# EAGLE library part NOII4SM6600A (library ICs)
6.6MP CMOS Image Sensor, 1" form factor, 40MHz.
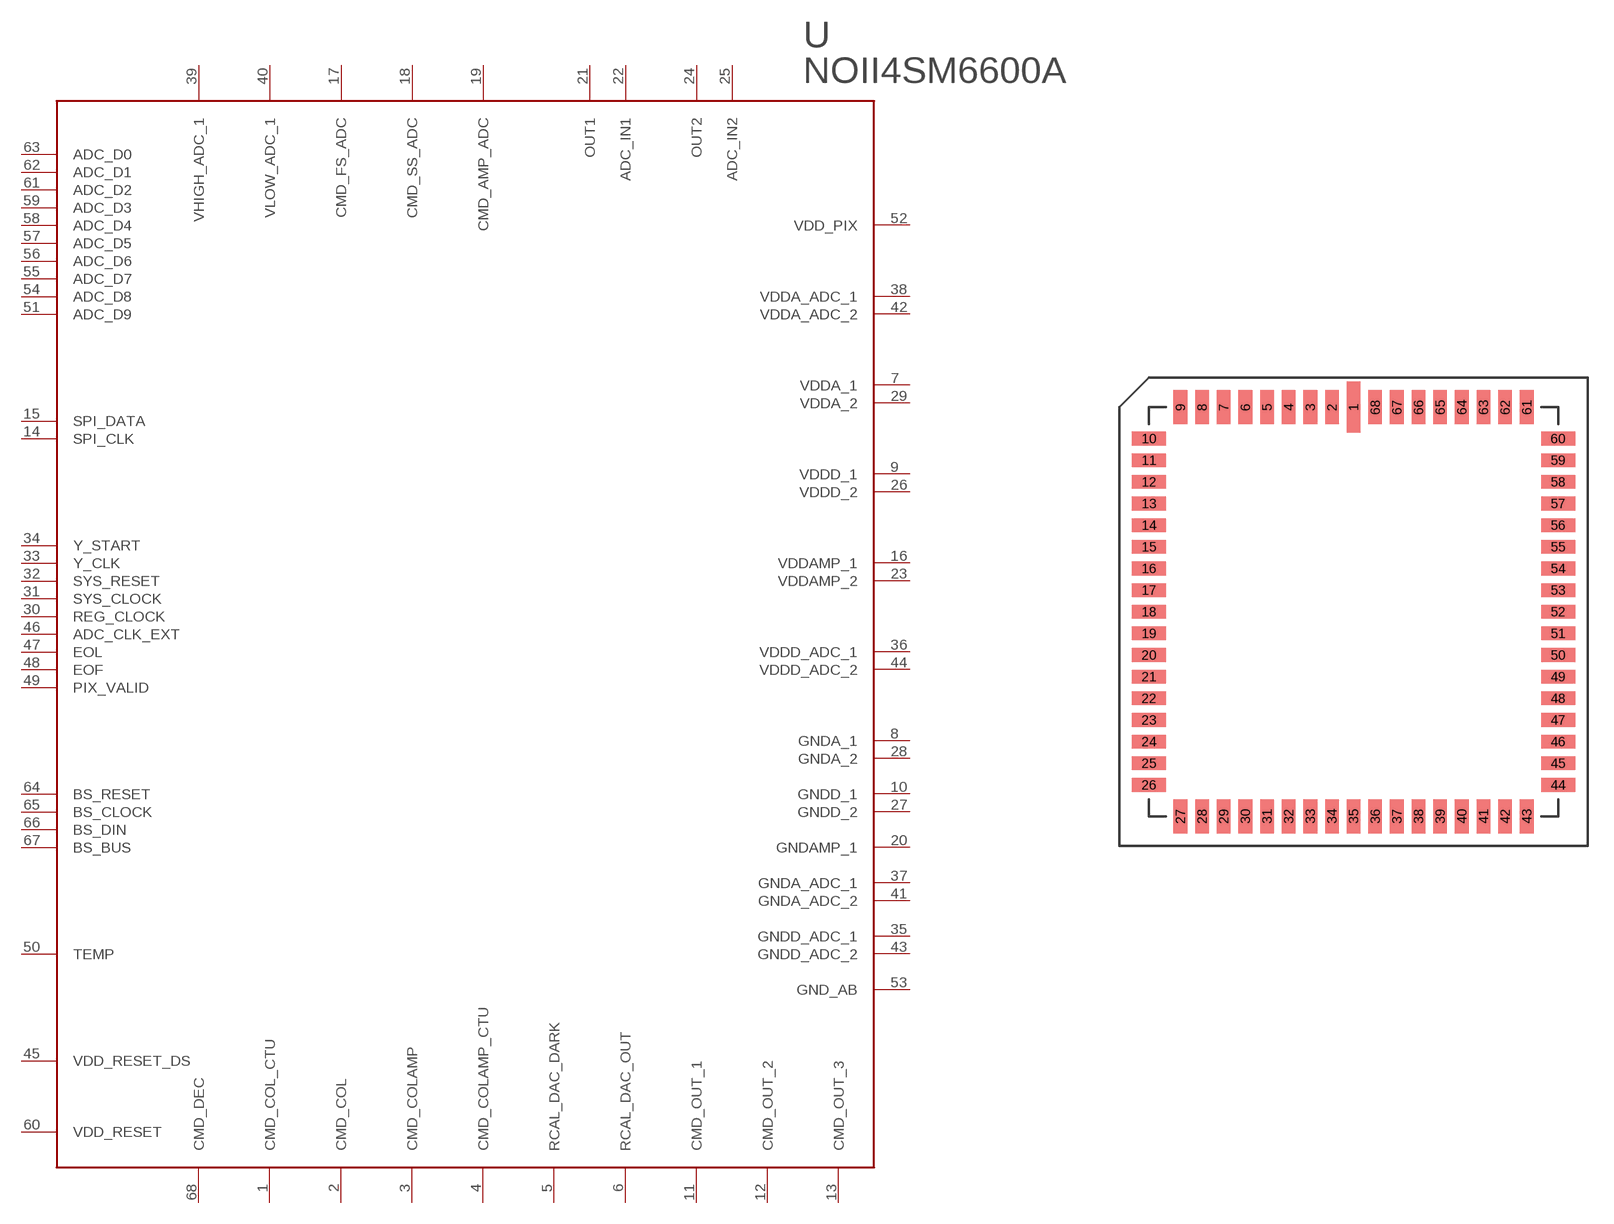
[diagram p48: symbol with the pads of LCC68; footprint LCC68]

Designator prefix U

## NOII4SM6600A (DIGIKEY: NOII4SM6600A-QDCOS-ND; MOUSER: 863-NOII4SM6600AQDC)  [LCC68]
1  CMD_COL_CTU
2  CMD_COL
3  CMD_COLAMP
4  CMD_COLAMP_CTU
5  RCAL_DAC_DARK
6  RCAL_DAC_OUT
7  VDDA_1
8  GNDA_1
9  VDDD_1
10  GNDD_1
11  CMD_OUT_1
12  CMD_OUT_2
13  CMD_OUT_3
14  SPI_CLK
15  SPI_DATA
16  VDDAMP_1
17  CMD_FS_ADC
18  CMD_SS_ADC
19  CMD_AMP_ADC
20  GNDAMP_1
21  OUT1
22  ADC_IN1
23  VDDAMP_2
24  OUT2
25  ADC_IN2
26  VDDD_2
27  GNDD_2
28  GNDA_2
29  VDDA_2
30  REG_CLOCK
31  SYS_CLOCK
32  SYS_RESET
33  Y_CLK
34  Y_START
35  GNDD_ADC_1
36  VDDD_ADC_1
37  GNDA_ADC_1
38  VDDA_ADC_1
39  VHIGH_ADC_1
40  VLOW_ADC_1
41  GNDA_ADC_2
42  VDDA_ADC_2
43  GNDD_ADC_2
44  VDDD_ADC_2
45  VDD_RESET_DS
46  ADC_CLK_EXT
47  EOL
48  EOF
49  PIX_VALID
50  TEMP
51  ADC_D9
52  VDD_PIX
53  GND_AB
54  ADC_D8
55  ADC_D7
56  ADC_D6
57  ADC_D5
58  ADC_D4
59  ADC_D3
60  VDD_RESET
61  ADC_D2
62  ADC_D1
63  ADC_D0
64  BS_RESET
65  BS_CLOCK
66  BS_DIN
67  BS_BUS
68  CMD_DEC

## Footprint LCC68 (pad centres in mm)
smd 0.8 x 3: 1 0,12
smd 0.8 x 2: 2 -1.27,12; 3 -2.54,12; 4 -3.81,12; 5 -5.08,12; 6 -6.35,12; 7 -7.62,12; 8 -8.89,12; 9 -10.16,12; 27 -10.16,-12; 28 -8.89,-12; 29 -7.62,-12; 30 -6.35,-12; 31 -5.08,-12; 32 -3.81,-12; 33 -2.54,-12; 34 -1.27,-12; 35 0,-12; 36 1.27,-12; 37 2.54,-12; 38 3.81,-12; 39 5.08,-12; 40 6.35,-12; 41 7.62,-12; 42 8.89,-12; 43 10.16,-12; 61 10.16,12; 62 8.89,12; 63 7.62,12; 64 6.35,12; 65 5.08,12; 66 3.81,12; 67 2.54,12; 68 1.27,12
smd 2 x 0.8: 10 -12,10.16; 11 -12,8.89; 12 -12,7.62; 13 -12,6.35; 14 -12,5.08; 15 -12,3.81; 16 -12,2.54; 17 -12,1.27; 18 -12,0; 19 -12,-1.27; 20 -12,-2.54; 21 -12,-3.81; 22 -12,-5.08; 23 -12,-6.35; 24 -12,-7.62; 25 -12,-8.89; 26 -12,-10.16; 44 12,-10.16; 45 12,-8.89; 46 12,-7.62; 47 12,-6.35; 48 12,-5.08; 49 12,-3.81; 50 12,-2.54; 51 12,-1.27; 52 12,0; 53 12,1.27; 54 12,2.54; 55 12,3.81; 56 12,5.08; 57 12,6.35; 58 12,7.62; 59 12,8.89; 60 12,10.16